# Altium schematic symbol library CRYSTAL.Schlib: 1 symbol
Pins are listed as number, name and electrical type; pins without a type are passive.

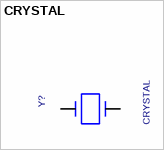
[diagram p0: symbol CRYSTAL]

## CRYSTAL
designator Y?
Crystal Oscillator
pins: 1, 2